# EAGLE library part TP5410 (library battery)
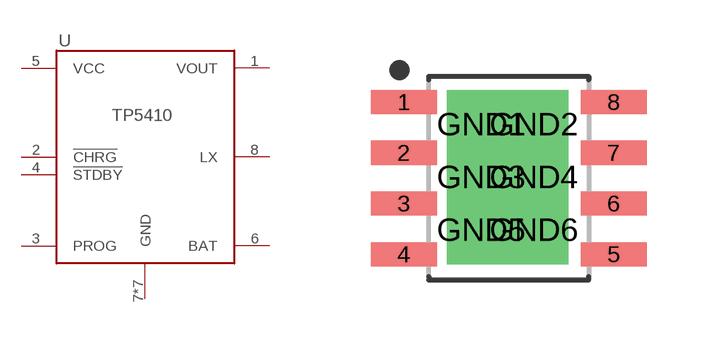
[diagram p0: symbol with the pads of SOIC127P600X175-8; footprint SOIC127P600X175-8]

Designator prefix -

## TP5410  [SOIC127P600X175-8]
1  VOUT
2  !CHRG
3  PROG
4  !STDBY
5  VCC
6  BAT
7  GND
8  LX
GND1  GND
GND2  GND
GND3  GND
GND4  GND
GND5  GND
GND6  GND

## Footprint SOIC127P600X175-8 (pad centres in mm)
8-SOIC, 1.27 mm pitch, 6.00 mm span, 4.90 X 3.90 X 1.75 mm body 8-pin SOIC package with 1.27 mm pitch, 6.00 mm span with body size 4.90 X 3.90 X 1.75 mm
smd 1.651 x 0.602: 1 -2.626,1.905; 2 -2.626,0.635; 3 -2.626,-0.635; 4 -2.626,-1.905; 5 2.626,-1.905; 6 2.626,-0.635; 7 2.626,0.635; 8 2.626,1.905
drill 1.143 pad 1.321 square: GND1 -0.686,1.346; GND2 0.635,1.346; GND3 -0.686,0.025; GND4 0.635,0.025; GND5 -0.686,-1.295; GND6 0.635,-1.295